# Altium footprint library 142.PcbLib: 5 footprints
Each footprint in its own frame and in the unit in brackets; x right, y up, seen from the top. Pads: shape width x height; smd on the part's side, far side on the other; paste and mask are expansions set on the pad; w line width, h text height; cw(c..) or ccw(c..) is an arc to the next point about the centre after c.
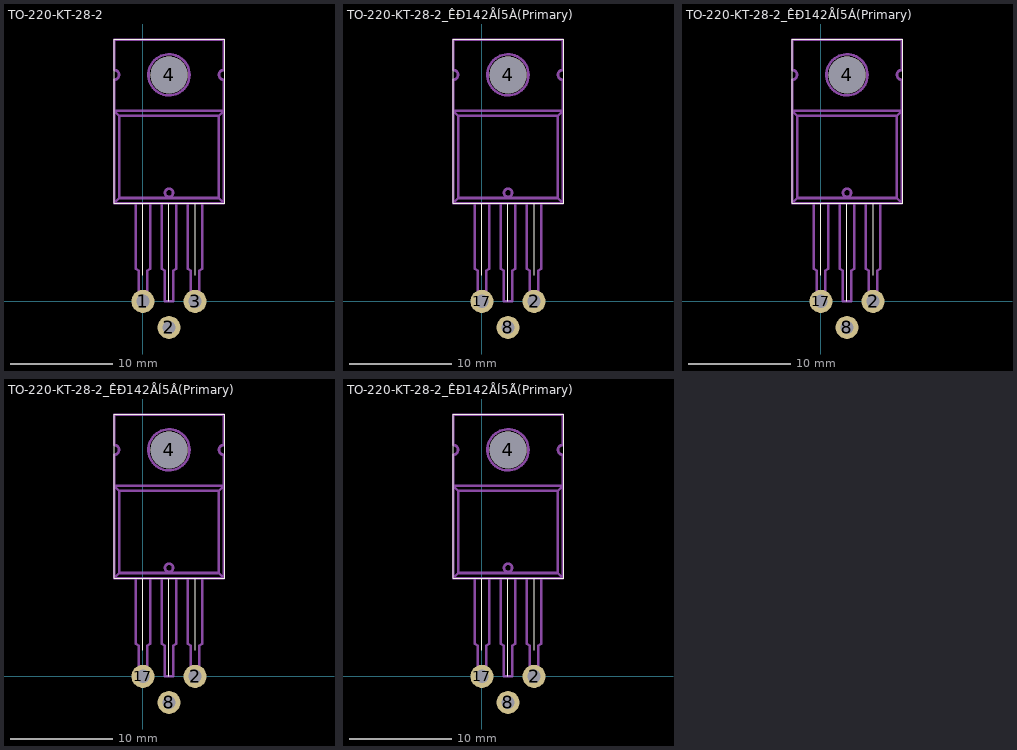
[diagram p0: the footprints below, top view; thin cyan lines are the x and y axes]

## TO-220-KT-28-2 [mm]
pads (4):
  round 2.25 hole 1.3: 1(0,0) 2(2.54,-2.54) 3(5.08,0)
  round 3.6 hole 3.6 unplated: 4(2.55,22.07)
Top Overlay:
  lines w0.1: 0,2.54 0,9.576 ; 2.54,0 2.54,9.576 ; 5.08,2.54 5.08,9.576 ; -2.8,9.57 7.95,9.57 7.95,25.57 -2.8,25.57 -2.8,9.57
Mechanical 1:
  circle w0.25: c2.54,22.076 r2
  circle w0.25: c2.54,10.582 r0.397
  lines w0.25: -0.7,9.576 -0.7,3.176 -0.4,3.001 -0.4,0.001 0,0.001 0.4,0.001 0.4,3.001 0.7,3.176 0.7,9.576 ; 1.84,9.576 1.84,3.176 2.14,3.001 2.14,0.001 2.54,0.001 2.94,0.001 2.94,3.001 3.24,3.176 3.24,9.576 ; 4.38,9.576 4.38,3.176 4.68,3.001 4.68,0.001 5.08,0.001 5.48,0.001 5.48,3.001 5.78,3.176 5.78,9.576 ; -2.81,9.576 7.89,9.576 ; -2.81,9.576 -2.81,18.576 ; -2.81,9.576 -2.31,10.076 ; -2.81,18.576 7.89,18.576 ; -2.81,18.576 -2.81,21.595 ccw(c-2.81,22.076) -2.81,22.557 -2.81,25.476 7.89,25.476 7.89,22.557 ccw(c7.89,22.076) 7.89,21.595 7.89,18.576 ; -2.81,18.576 -2.31,18.076 ; -2.31,10.076 7.39,10.076 ; -2.31,10.076 -2.31,18.076 ; -2.31,18.076 7.39,18.076 ; 7.39,10.076 7.39,18.076 ; 7.39,10.076 7.89,9.576 ; 7.39,18.076 7.89,18.576 ; 7.89,9.576 7.89,18.576

## TO-220-KT-28-2_ÊÐ142ÅÍ5À(Primary) [mm]
pads (4):
  round 2.25 hole 1.3: 2(5.08,0) 8(2.54,-2.54) 17(0,0)
  round 3.6 hole 3.6 unplated: 4(2.55,22.07)
Top Overlay:
  lines w0.1: 0,2.54 0,9.576 ; 2.54,0 2.54,9.576 ; 5.08,2.54 5.08,9.576 ; -2.8,9.57 7.95,9.57 7.95,25.57 -2.8,25.57 -2.8,9.57
Mechanical 1:
  circle w0.25: c2.54,22.076 r2
  circle w0.25: c2.54,10.582 r0.397
  lines w0.25: -0.7,9.576 -0.7,3.176 -0.4,3.001 -0.4,0.001 0,0.001 0.4,0.001 0.4,3.001 0.7,3.176 0.7,9.576 ; 1.84,9.576 1.84,3.176 2.14,3.001 2.14,0.001 2.54,0.001 2.94,0.001 2.94,3.001 3.24,3.176 3.24,9.576 ; 4.38,9.576 4.38,3.176 4.68,3.001 4.68,0.001 5.08,0.001 5.48,0.001 5.48,3.001 5.78,3.176 5.78,9.576 ; -2.81,9.576 7.89,9.576 ; -2.81,9.576 -2.81,18.576 ; -2.81,9.576 -2.31,10.076 ; -2.81,18.576 7.89,18.576 ; -2.81,18.576 -2.81,21.595 ccw(c-2.81,22.076) -2.81,22.557 -2.81,25.476 7.89,25.476 7.89,22.557 ccw(c7.89,22.076) 7.89,21.595 7.89,18.576 ; -2.81,18.576 -2.31,18.076 ; -2.31,10.076 7.39,10.076 ; -2.31,10.076 -2.31,18.076 ; -2.31,18.076 7.39,18.076 ; 7.39,10.076 7.39,18.076 ; 7.39,10.076 7.89,9.576 ; 7.39,18.076 7.89,18.576 ; 7.89,9.576 7.89,18.576

## TO-220-KT-28-2_ÊÐ142ÅÍ5Á(Primary) [mm]
pads (4):
  round 2.25 hole 1.3: 2(5.08,0) 8(2.54,-2.54) 17(0,0)
  round 3.6 hole 3.6 unplated: 4(2.55,22.07)
Top Overlay:
  lines w0.1: 0,2.54 0,9.576 ; 2.54,0 2.54,9.576 ; 5.08,2.54 5.08,9.576 ; -2.8,9.57 7.95,9.57 7.95,25.57 -2.8,25.57 -2.8,9.57
Mechanical 1:
  circle w0.25: c2.54,22.076 r2
  circle w0.25: c2.54,10.582 r0.397
  lines w0.25: -0.7,9.576 -0.7,3.176 -0.4,3.001 -0.4,0.001 0,0.001 0.4,0.001 0.4,3.001 0.7,3.176 0.7,9.576 ; 1.84,9.576 1.84,3.176 2.14,3.001 2.14,0.001 2.54,0.001 2.94,0.001 2.94,3.001 3.24,3.176 3.24,9.576 ; 4.38,9.576 4.38,3.176 4.68,3.001 4.68,0.001 5.08,0.001 5.48,0.001 5.48,3.001 5.78,3.176 5.78,9.576 ; -2.81,9.576 7.89,9.576 ; -2.81,9.576 -2.81,18.576 ; -2.81,9.576 -2.31,10.076 ; -2.81,18.576 7.89,18.576 ; -2.81,18.576 -2.81,21.595 ccw(c-2.81,22.076) -2.81,22.557 -2.81,25.476 7.89,25.476 7.89,22.557 ccw(c7.89,22.076) 7.89,21.595 7.89,18.576 ; -2.81,18.576 -2.31,18.076 ; -2.31,10.076 7.39,10.076 ; -2.31,10.076 -2.31,18.076 ; -2.31,18.076 7.39,18.076 ; 7.39,10.076 7.39,18.076 ; 7.39,10.076 7.89,9.576 ; 7.39,18.076 7.89,18.576 ; 7.89,9.576 7.89,18.576

## TO-220-KT-28-2_ÊÐ142ÅÍ5Â(Primary) [mm]
pads (4):
  round 2.25 hole 1.3: 2(5.08,0) 8(2.54,-2.54) 17(0,0)
  round 3.6 hole 3.6 unplated: 4(2.55,22.07)
Top Overlay:
  lines w0.1: 0,2.54 0,9.576 ; 2.54,0 2.54,9.576 ; 5.08,2.54 5.08,9.576 ; -2.8,9.57 7.95,9.57 7.95,25.57 -2.8,25.57 -2.8,9.57
Mechanical 1:
  circle w0.25: c2.54,22.076 r2
  circle w0.25: c2.54,10.582 r0.397
  lines w0.25: -0.7,9.576 -0.7,3.176 -0.4,3.001 -0.4,0.001 0,0.001 0.4,0.001 0.4,3.001 0.7,3.176 0.7,9.576 ; 1.84,9.576 1.84,3.176 2.14,3.001 2.14,0.001 2.54,0.001 2.94,0.001 2.94,3.001 3.24,3.176 3.24,9.576 ; 4.38,9.576 4.38,3.176 4.68,3.001 4.68,0.001 5.08,0.001 5.48,0.001 5.48,3.001 5.78,3.176 5.78,9.576 ; -2.81,9.576 7.89,9.576 ; -2.81,9.576 -2.81,18.576 ; -2.81,9.576 -2.31,10.076 ; -2.81,18.576 7.89,18.576 ; -2.81,18.576 -2.81,21.595 ccw(c-2.81,22.076) -2.81,22.557 -2.81,25.476 7.89,25.476 7.89,22.557 ccw(c7.89,22.076) 7.89,21.595 7.89,18.576 ; -2.81,18.576 -2.31,18.076 ; -2.31,10.076 7.39,10.076 ; -2.31,10.076 -2.31,18.076 ; -2.31,18.076 7.39,18.076 ; 7.39,10.076 7.39,18.076 ; 7.39,10.076 7.89,9.576 ; 7.39,18.076 7.89,18.576 ; 7.89,9.576 7.89,18.576

## TO-220-KT-28-2_ÊÐ142ÅÍ5Ã(Primary) [mm]
pads (4):
  round 2.25 hole 1.3: 2(5.08,0) 8(2.54,-2.54) 17(0,0)
  round 3.6 hole 3.6 unplated: 4(2.55,22.07)
Top Overlay:
  lines w0.1: 0,2.54 0,9.576 ; 2.54,0 2.54,9.576 ; 5.08,2.54 5.08,9.576 ; -2.8,9.57 7.95,9.57 7.95,25.57 -2.8,25.57 -2.8,9.57
Mechanical 1:
  circle w0.25: c2.54,22.076 r2
  circle w0.25: c2.54,10.582 r0.397
  lines w0.25: -0.7,9.576 -0.7,3.176 -0.4,3.001 -0.4,0.001 0,0.001 0.4,0.001 0.4,3.001 0.7,3.176 0.7,9.576 ; 1.84,9.576 1.84,3.176 2.14,3.001 2.14,0.001 2.54,0.001 2.94,0.001 2.94,3.001 3.24,3.176 3.24,9.576 ; 4.38,9.576 4.38,3.176 4.68,3.001 4.68,0.001 5.08,0.001 5.48,0.001 5.48,3.001 5.78,3.176 5.78,9.576 ; -2.81,9.576 7.89,9.576 ; -2.81,9.576 -2.81,18.576 ; -2.81,9.576 -2.31,10.076 ; -2.81,18.576 7.89,18.576 ; -2.81,18.576 -2.81,21.595 ccw(c-2.81,22.076) -2.81,22.557 -2.81,25.476 7.89,25.476 7.89,22.557 ccw(c7.89,22.076) 7.89,21.595 7.89,18.576 ; -2.81,18.576 -2.31,18.076 ; -2.31,10.076 7.39,10.076 ; -2.31,10.076 -2.31,18.076 ; -2.31,18.076 7.39,18.076 ; 7.39,10.076 7.39,18.076 ; 7.39,10.076 7.89,9.576 ; 7.39,18.076 7.89,18.576 ; 7.89,9.576 7.89,18.576